# EAGLE library part MC100EP142FAG (library on-semiconductor-01)
3.3 V / 5 V ECL 9-Bit Shift Register
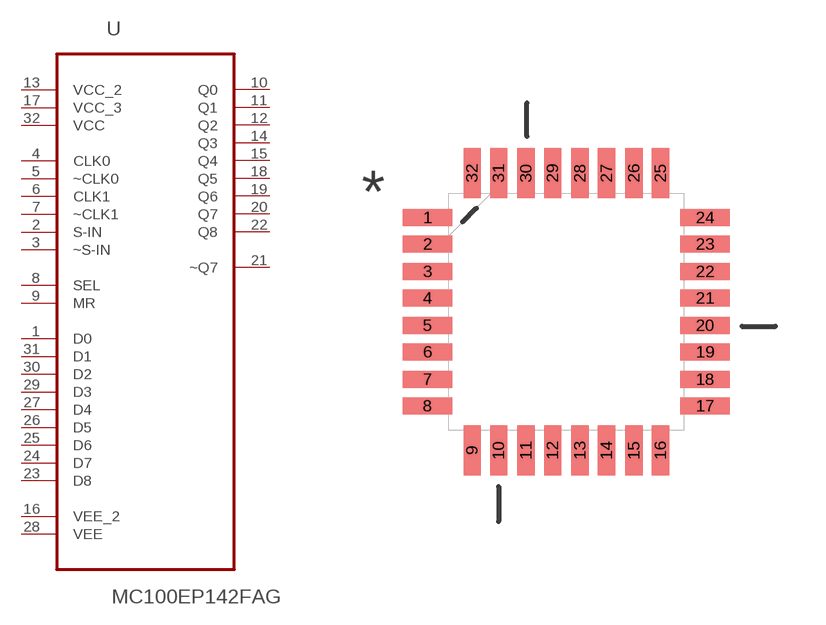
[diagram p103: symbol with the pads of QFP80P900X900X160-32N; footprint QFP80P900X900X160-32N]

Designator prefix U

## MC100EP142FAG (MPN: MC100EP142FAG; OC_FARNELL: -; OC_NEWARK: 26K3846; PACKAGE: LQFP-32; SUPPLIER: ON SEMICONDUCTOR)  [QFP80P900X900X160-32N]
1  D0  in
2  S-IN  in
3  ~S-IN  in
4  CLK0  in
5  ~CLK0  in
6  CLK1  in
7  ~CLK1  in
8  SEL  in
9  MR  in
10  Q0  out
11  Q1  out
12  Q2  out
13  VCC_2  pwr
14  Q3  out
15  Q4  out
16  VEE_2  pas
17  VCC_3  pwr
18  Q5  out
19  Q6  out
20  Q7  out
21  ~Q7  out
22  Q8  out
23  D8  out
24  D7  in
25  D6  in
26  D5  in
27  D4  in
28  VEE  out
29  D3  in
30  D2  in
31  D1  in
32  VCC  pwr

## Footprint QFP80P900X900X160-32N (pad centres in mm)
smd 1.473 x 0.508: 1 -4.115,2.794; 2 -4.115,2.007; 3 -4.115,1.194; 4 -4.115,0.406; 5 -4.115,-0.406; 6 -4.115,-1.194; 7 -4.115,-2.007; 8 -4.115,-2.794; 17 4.115,-2.794; 18 4.115,-2.007; 19 4.115,-1.194; 20 4.115,-0.406; 21 4.115,0.406; 22 4.115,1.194; 23 4.115,2.007; 24 4.115,2.794
smd 0.508 x 1.473: 9 -2.794,-4.115; 10 -2.007,-4.115; 11 -1.194,-4.115; 12 -0.406,-4.115; 13 0.406,-4.115; 14 1.194,-4.115; 15 2.007,-4.115; 16 2.794,-4.115; 25 2.794,4.115; 26 2.007,4.115; 27 1.194,4.115; 28 0.406,4.115; 29 -0.406,4.115; 30 -1.194,4.115; 31 -2.007,4.115; 32 -2.794,4.115